# Altium schematic symbol library SC18-25J.SchLib: 1 symbol
Pins are listed as number, name and electrical type; pins without a type are passive.

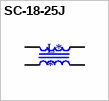
[diagram p0: symbol SC-18-25J]

## SC-18-25J
designator L*
https://www.tme.eu/pl/details/sc-18-25j/dlawiki-pierscieniowe/kemet/
footprint SC18-25J
pins: 1, 2, 3, 4